# Altium footprint library ESP32-WROOM-32D.PcbLib: 1 footprints
Each footprint in its own frame and in the unit in brackets; x right, y up, seen from the top. Pads: shape width x height; smd on the part's side, far side on the other; paste and mask are expansions set on the pad; w line width, h text height; cw(c..) or ccw(c..) is an arc to the next point about the centre after c.
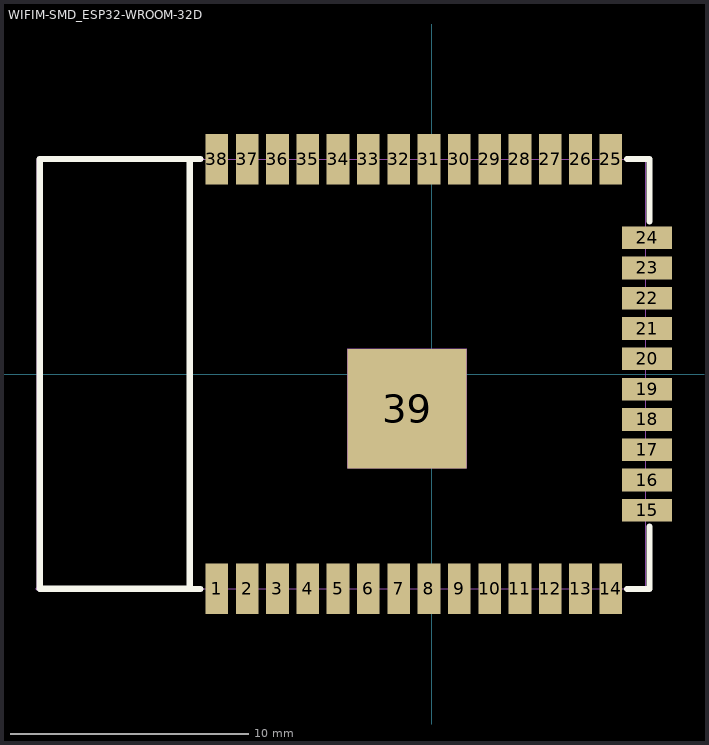
[diagram p0: the footprint, top view; thin cyan lines are the x and y axes]

## WIFIM-SMD_ESP32-WROOM-32D [mm]
pads (39):
  rect 0.95x2.1 smd: 1(-9.015,-9) 2(-7.745,-9) 3(-6.475,-9) 4(-5.205,-9) 5(-3.935,-9) 6(-2.665,-9) 7(-1.395,-9) 8(-0.125,-9) 9(1.145,-9) 10(2.415,-9) 11(3.685,-9) 12(4.955,-9) 13(6.225,-9) 14(7.495,-9) 25(7.495,9) 26(6.225,9) 27(4.955,9) 28(3.685,9) 29(2.415,9) 30(1.145,9) 31(-0.125,9) 32(-1.395,9) 33(-2.665,9) 34(-3.935,9) 35(-5.205,9) 36(-6.475,9) 37(-7.745,9) 38(-9.015,9)
  rect 2.1x0.95 smd: 15(9.015,-5.715) 16(9.015,-4.445) 17(9.015,-3.175) 18(9.015,-1.905) 19(9.015,-0.635) 20(9.015,0.635) 21(9.015,1.905) 22(9.015,3.175) 23(9.015,4.445) 24(9.015,5.715)
  rect 5x5 smd: 39(-1.045,-1.45)
Top Overlay:
  lines w0.254: -9.696,-9.017 -10.158,-9.017 -10.158,9.017 -9.696,9.017 ; 8.176,-9.017 9.121,-9.017 9.121,-6.396 ; 8.176,9.017 9.121,9.017 9.121,6.396 ; -16.435,-9 -10.135,-9 -10.135,9 -16.435,9 -16.435,-9
Mechanical 6:
  circle w0.3: c-8.89,-9.398 r0.15
Mechanical 15:
  drawing of 44 lines, arcs and shapes, not listed
3D body "ESP32-WROOM-32D.STEP": height 3.15, standoff 0.05, extent -16.508,-9 8.992,9